# EAGLE library part MAX152X (library X893)
Simple SOT23 Boost Controllers http://www.maximintegrated.com/datasheet/index.mvp/id/2451?ver=C&utm_expid=50713806-2&utm_referrer=http%3A%2F%2Fwww.maximintegrated.com%2Fpst%2Frun.mvp%3Fq%3Dmax1522
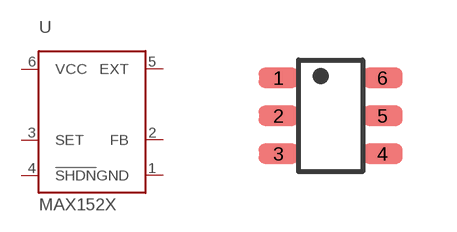
[diagram p182: symbol with the pads of SOT23-6; footprint SOT23-6]

Designator prefix U

## MAX152X  [SOT23-6]
1  GND  pwr
2  FB  pas
3  SET  pas
4  !SHDN
5  EXT  pas
6  VCC  pas

## Footprint SOT23-6 (pad centres in mm)
smd 1 x 0.5: 1 -1.3,0.95; 2 -1.3,0; 3 -1.3,-0.95; 4 1.3,-0.95; 5 1.3,0; 6 1.3,0.95